# Altium footprint library Power Supply.PcbLib: 23 footprints (part 2 of 2)
Each footprint in its own frame and in the unit in brackets; x right, y up, seen from the top. Pads: shape width x height; smd on the part's side, far side on the other; paste and mask are expansions set on the pad; w line width, h text height; cw(c..) or ccw(c..) is an arc to the next point about the centre after c.
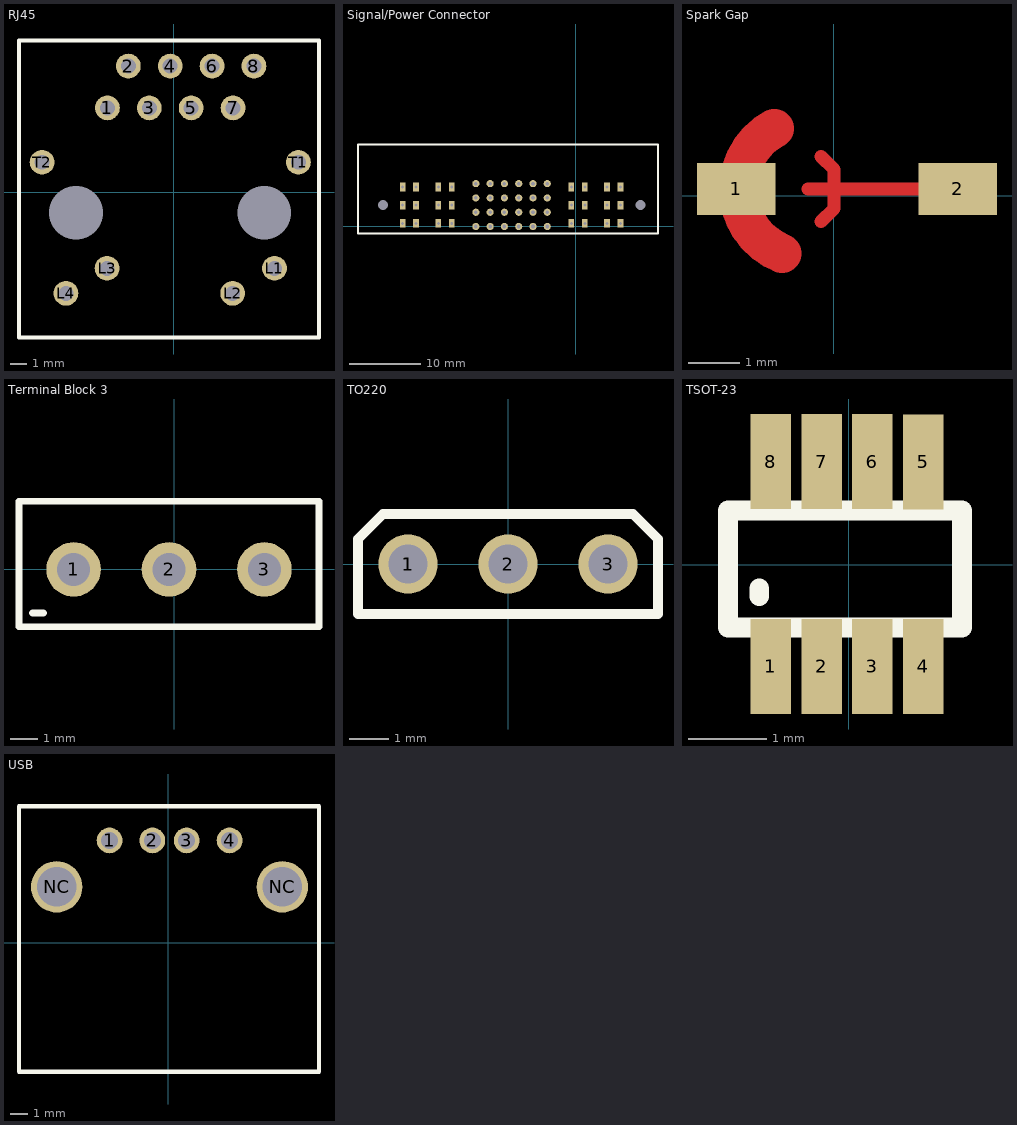
[diagram p1: the footprints below, top view; thin cyan lines are the x and y axes]

## RJ45 [mm]
pads (16):
  round 1.5 hole 0.91: 1(-4.035,5.12) 2(-2.765,7.66) 3(-1.495,5.12) 4(-0.225,7.66) 5(1.045,5.12) 6(2.315,7.66) 7(3.585,5.12) 8(4.855,7.66) L1(6.1,-4.61) L2(3.56,-6.13) L3(-4.06,-4.61) L4(-6.55,-6.13)
  round 0 hole 3.251: CM1(5.49,-1.23) CM2(-5.94,-1.23)
  round 1.5 hole 0.9: T1(7.55,1.82) T2(-8,1.82)
Top Overlay:
  lines w0.254: -9.4,-8.8 8.8,-8.8 8.8,9.2 -9.4,9.2 -9.4,-8.8

## Signal/Power Connector [mm]
pads (50):
  rect 0.8x1.2 hole 0.41 square: 1(-24.25,0.45) 1(-24.25,2.99) 1(-24.25,5.53) 1(-22.37,0.45) 1(-22.37,2.99) 1(-22.37,5.53) 2(-19.25,0.45) 2(-19.25,2.99) 2(-19.25,5.53) 2(-17.37,0.45) 2(-17.37,2.99) 2(-17.37,5.53) 27(-0.63,0.45) 27(-0.63,2.99) 27(-0.63,5.53) 27(1.25,0.45) 27(1.25,2.99) 27(1.25,5.53) 28(4.37,0.45) 28(4.37,2.99) 28(4.37,5.53) 28(6.25,0.45) 28(6.25,2.99) 28(6.25,5.53)
  round 1 hole 0.51: 3(-14,0) 4(-14,2) 5(-14,4) 6(-14,6) 7(-12,0) 8(-12,2) 9(-12,4) 10(-12,6) 11(-10,0) 12(-10,2) 13(-10,4) 14(-10,6) 15(-8,0) 16(-8,2) 17(-8,4) 18(-8,6) 19(-6,0) 20(-6,2) 21(-6,4) 22(-6,6) 23(-4,0) 24(-4,2) 25(-4,4) 26(-4,6)
  round 0 hole 1.41: NC(-27.02,2.99) NC(9.02,2.99)
Top Overlay:
  lines w0.254: -30.5,-1 -30.5,11.5 11.5,11.5 11.5,-1 -30.5,-1

## Spark Gap [mil] "Stops Over Voltage"
pads (2):
  rect 60x40 all layers, no hole: 1(-75,5) 2(95,5)
Top Layer:
  lines w10: -20,5 95,5 ; -10,-20 0,-10 0,5 0,20 -10,30
  lines w30: -45.81,51.46 ccw(c-20,5) -39.74,-44.35

## Terminal Block 3 [mm]
pads (3):
  round 2 hole 1.2: 1(-3.7,0) 2(-0.2,0) 3(3.3,0)
Top Overlay:
  lines w0.254: -5.2,-1.6 -4.8,-1.6 ; -5.7,-2.1 5.3,-2.1 5.3,2.5 -5.7,2.5 -5.7,-2.1

## TO220 [mm]
pads (4):
  round 1.5 hole 1: 1(-2.54,0) 1(-2.54,0) 2(0,0) 3(2.54,0)
Top Overlay:
  lines w0.254: -3.81,-1.27 3.81,-1.27 3.81,-0.635 3.81,0.635 3.175,1.27 2.54,1.27 -3.175,1.27 -3.81,0.635 -3.81,0 -3.81,-1.27

## TSOT-23 [mm]
pads (8):
  rect 0.52x1.22 all layers, no hole: 1(-1,-1.3) 2(-0.35,-1.3) 3(0.3,-1.3) 4(0.95,-1.3) 5(0.95,1.32) 6(0.3,1.325) 7(-0.35,1.325) 8(-1,1.325)
Top Overlay:
  lines w0.254: -1.15,-0.4 -1.15,-0.3 ; -1.55,-0.8 1.45,-0.8 1.45,0.7 -1.55,0.7 -1.55,-0.8

## USB [mm]
pads (6):
  round 1.5 hole 1: 1(-3.42,5.96) 2(-0.92,5.96) 3(1.08,5.96) 4(3.585,5.96)
  round 3 hole 2.3: NC(-6.5,3.25) NC(6.66,3.25)
Top Overlay:
  lines w0.254: -8.7,-7.54 -8.7,7.96 8.8,7.96 8.8,-7.54 -8.7,-7.54